# Altium footprint library CAPPRD500W80D1250H3200.PcbLib: 1 footprints
Each footprint in its own frame and in the unit in brackets; x right, y up, seen from the top. Pads: shape width x height; smd on the part's side, far side on the other; paste and mask are expansions set on the pad; w line width, h text height; cw(c..) or ccw(c..) is an arc to the next point about the centre after c.
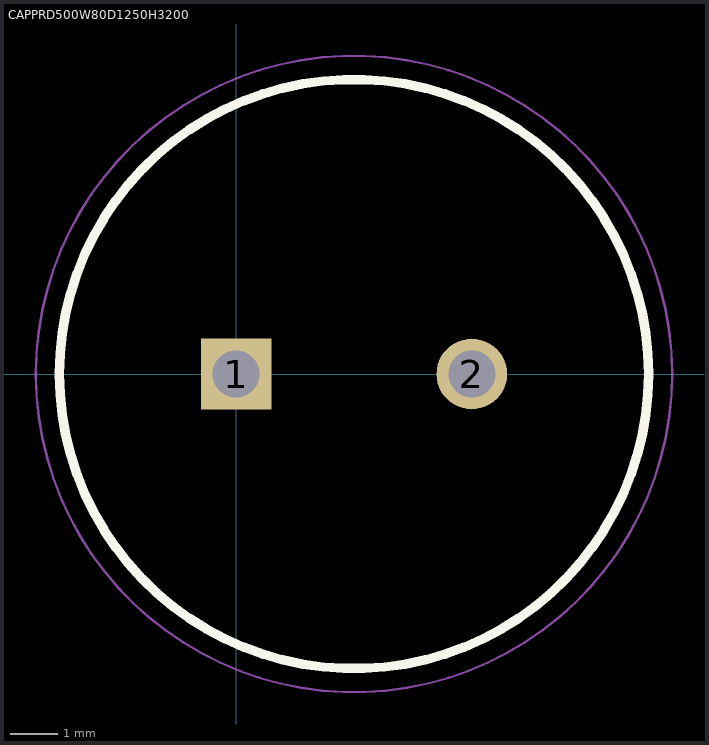
[diagram p0: the footprint, top view; thin cyan lines are the x and y axes]

## CAPPRD500W80D1250H3200 [mm]
pads (2):
  rect 1.5x1.5 / inner round 1.5 / far side rect 1.5x1.5 hole 1: 1(0,0)
  round 1.5 hole 1: 2(5,0)
Top Overlay:
  circle w0.2: c2.5,0 r6.25
Mechanical 15:
  circle w0.1: c2.5,0 r6.25
Mechanical 20:
  circle w0.05: c2.5,0 r6.75
3D body "EEU-FS1K471L.stp": height 32, standoff -10, extent -4,-6.5 9,6.5